# EAGLE library part SH7-3 (library con-rib)
RIBBON CABLE CONNECTOR Flachstecker / Faston
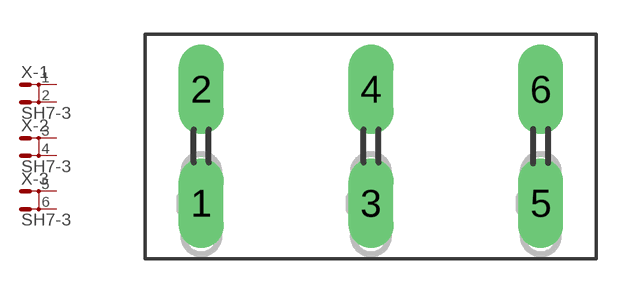
[diagram p7: symbol with the pads of SH7-3; footprint SH7-3]

Designator prefix X; gates -1=MD -2=MD -3=MD

## SH7-3 (OC_FARNELL: unknown; OC_NEWARK: unknown)  [SH7-3]
1  -1:1  pas
2  -1:2  pas
3  -2:1  pas
4  -2:2  pas
5  -3:1  pas
6  -3:2  pas

## Footprint SH7-3 (pad centres in mm)
RIBBON CABLE CONNECTOR Flachstecker / Faston
drill 1.321 long: 1 -7.493,-2.515; 2 -7.493,2.515; 3 0,-2.515; 4 0,2.515; 5 7.493,-2.515; 6 7.493,2.515